# EAGLE library part TI-TLV61220 (library custom)
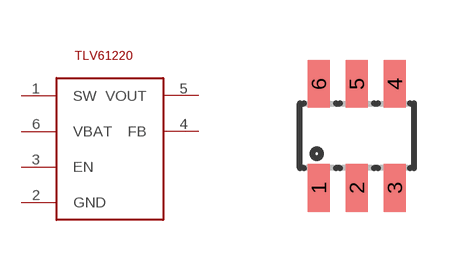
[diagram p3: symbol with the pads of SOT23-6L; footprint SOT23-6L]

Designator prefix -

## TI-TLV61220  [SOT23-6L]
1  SW  pwr
2  GND  sup
3  EN  in
4  FB  in
5  VOUT  pwr
6  VBAT  pwr

## Footprint SOT23-6L (pad centres in mm)
Small Outline Transistor
smd 0.55 x 1.2: 1 -0.95,-1.3; 2 0,-1.3; 3 0.95,-1.3; 4 0.95,1.3; 5 0,1.3; 6 -0.95,1.3